# Altium footprint library PcbLib1.PcbLib: 11 footprints
Each footprint in its own frame and in the unit in brackets; x right, y up, seen from the top. Pads: shape width x height; smd on the part's side, far side on the other; paste and mask are expansions set on the pad; w line width, h text height; cw(c..) or ccw(c..) is an arc to the next point about the centre after c.
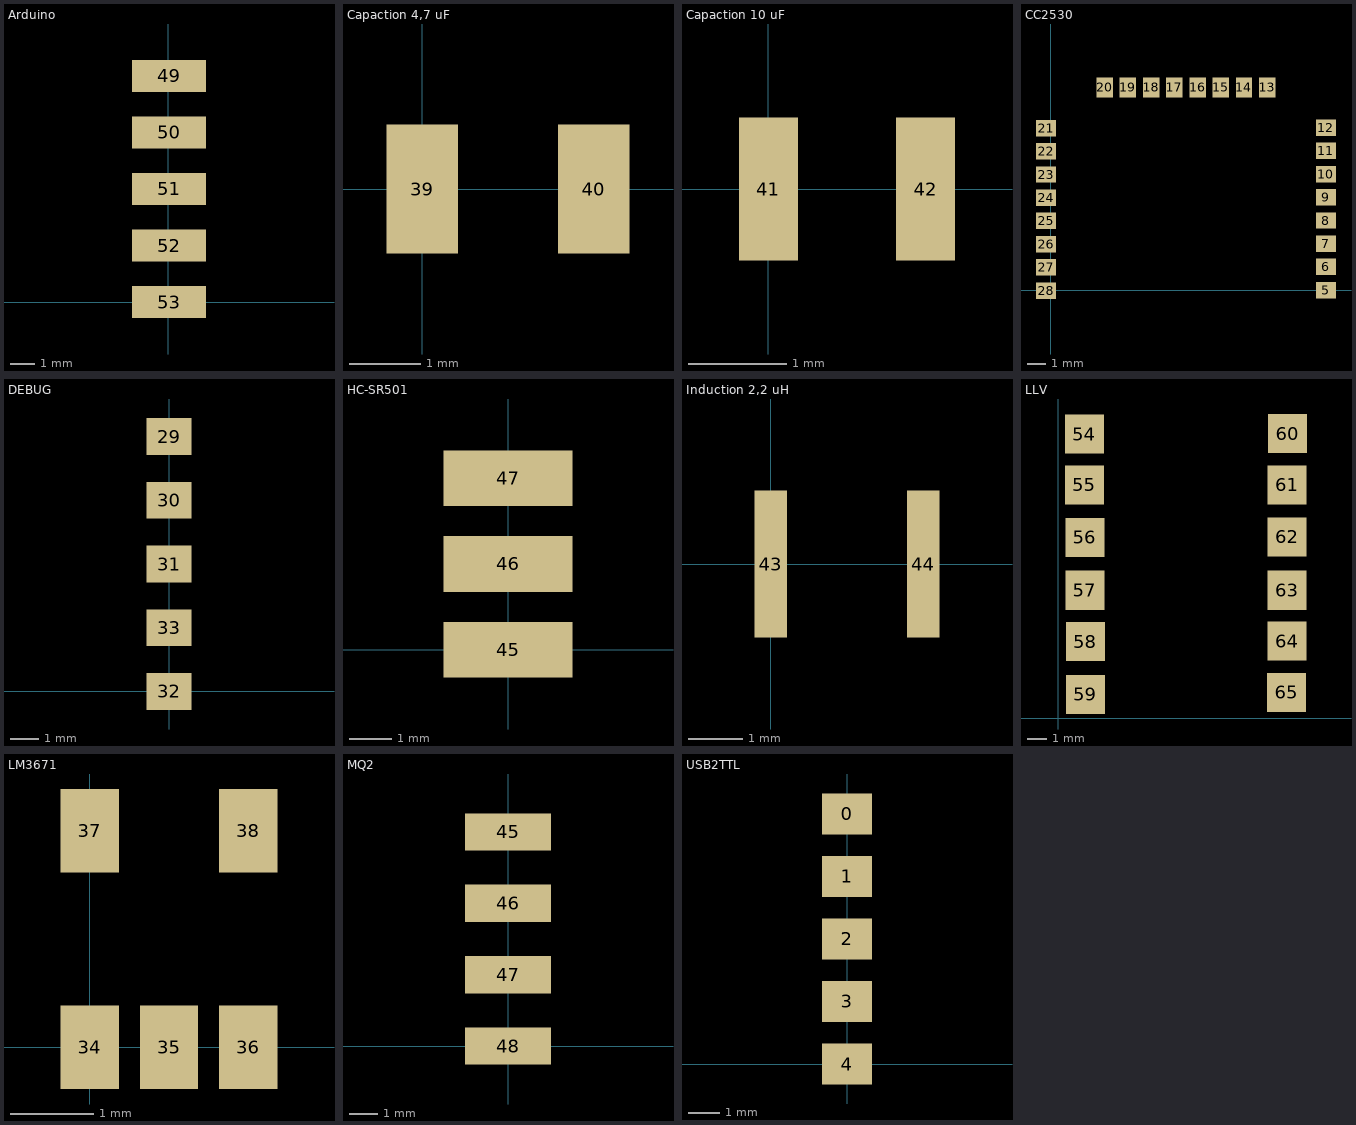
[diagram p0: the footprints below, top view; thin cyan lines are the x and y axes]

## Arduino [mm]
pads (5):
  rect 3x1.3 smd: 49(0.025,9.2) 50(0.025,6.9) 51(0.025,4.6) 52(0.025,2.3) 53(0.025,0)

## Capaction 4,7 uF [mm]
pads (2):
  rect 1x1.8 smd: 39(0,0) 40(2.4,0)

## Capaction 10 uF [mm]
pads (2):
  rect 0.6x1.45 smd: 41(0,0) 42(1.6,0)

## CC2530 [mm]
pads (24):
  rect 1.1x0.9 smd: 5(15.05,0) 6(15.05,1.27) 7(15.05,2.54) 8(15.05,3.81) 9(15.05,5.08) 10(15.05,6.35) 11(15.05,7.62) 12(15.05,8.89) 21(-0.25,8.865) 22(-0.25,7.595) 23(-0.25,6.325) 24(-0.25,5.055) 25(-0.25,3.785) 26(-0.25,2.515) 27(-0.25,1.245) 28(-0.25,-0.025)
  rect 0.9x1.1 smd: 13(11.84,11.09) 14(10.57,11.09) 15(9.3,11.09) 16(8.03,11.09) 17(6.76,11.09) 18(5.49,11.09) 19(4.22,11.09) 20(2.95,11.09)

## DEBUG [mm]
pads (5):
  rect 1.6x1.3 smd: 29(0,9) 30(0,6.75) 31(0,4.5) 32(0,0) 33(0,2.25)

## HC-SR501 [mm]
pads (3):
  rect 3x1.3 smd: 45(0,0) 46(0,2) 47(0,4)

## Induction 2,2 uH [mm]
pads (2):
  rect 0.6x2.7 smd: 43(0,0) 44(2.8,0)

## LLV [mm]
pads (12):
  rect 2x2 smd: 54(1.35,14.525) 55(1.35,11.925) 56(1.375,9.25) 57(1.375,6.55) 58(1.4,3.925) 59(1.4,1.225) 60(11.725,14.55) 61(11.7,11.925) 62(11.7,9.275) 63(11.7,6.55) 64(11.7,3.95) 65(11.675,1.325)

## LM3671 [mm]
pads (5):
  rect 0.7x1 smd mask+0: 34(0,0) 35(0.95,0) 36(1.9,0) 37(0,2.6) 38(1.9,2.6)

## MQ2 [mm]
pads (4):
  rect 3x1.3 smd: 45(0,7.5) 46(0,5) 47(0,2.5) 48(0,0)

## USB2TTL [mm]
pads (5):
  rect 1.6x1.3 smd: 0(0,8) 1(0,6) 2(0,4) 3(0,2) 4(0,0)